# EAGLE library part FTSH-107-XX-XXX-D (library FTSH-107-XX-XXX-D)
0.050"X0.050" CL THROUGH HOLE TERMINAL STRIP ASSEMBLY,14PINS.
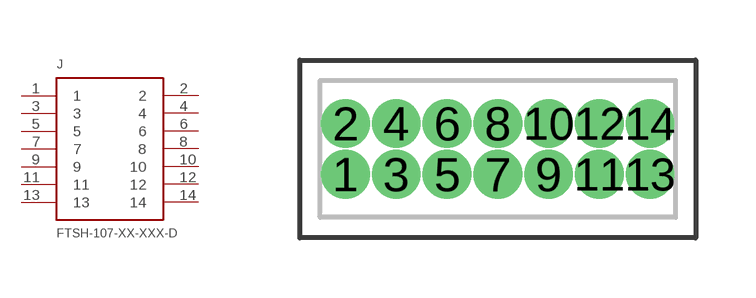
[diagram p0: symbol with the pads of FTSH-107-XX-XXX-D; footprint FTSH-107-XX-XXX-D]

Designator prefix J

## FTSH-107-XX-XXX-D  [FTSH-107-XX-XXX-D]
1  1
2  2
3  3
4  4
5  5
6  6
7  7
8  8
9  9
10  10
11  11
12  12
13  13
14  14

## Footprint FTSH-107-XX-XXX-D (pad centres in mm)
0.050"X0.050" CL THROUGH HOLE TERMINAL STRIP ASSEMBLY,14PINS.
drill 0.711 pad 1.016 round: 1 -3.81,-0.635; 2 -3.81,0.635; 3 -2.54,-0.635; 4 -2.54,0.635; 5 -1.27,-0.635; 6 -1.27,0.635; 7 0,-0.635; 8 0,0.635; 9 1.27,-0.635; 10 1.27,0.635; 11 2.54,-0.635; 12 2.54,0.635; 13 3.81,-0.635; 14 3.81,0.635